# Altium schematic symbol library preamp.SCHLIB: 32 symbols
Pins are listed as number, name and electrical type; pins without a type are passive.

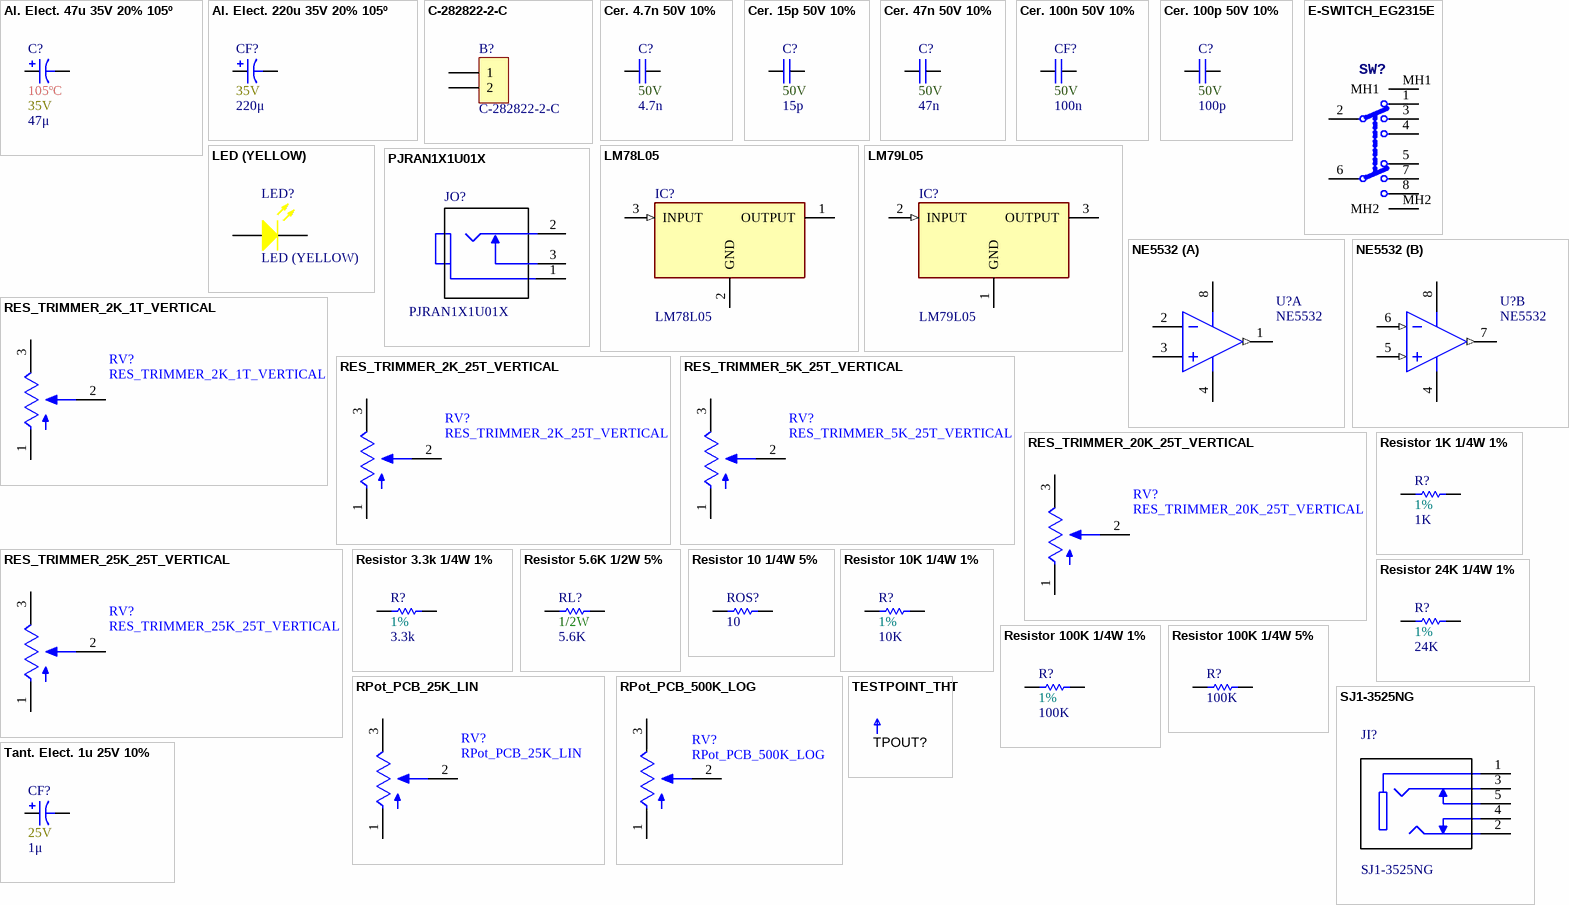
[diagram p0: symbols Al. Elect. 47u 35V 20% 105º to TESTPOINT_THT]

## Al. Elect. 47u 35V 20% 105º
designator C?  value 47μ  Temperature: 105ºC  Voltage: 35V  (hidden comment: Al. Elect. 47u 35V 20% 105º)
Aluminum Electrolytic Capacitor 47μF 35V 20% 105º; Application: Medium and high voltage type range from 160V-450V used as primary side input filter in power supply, which can be used in general switching power supply, PC power supply and industrial computer power supply,server power supply, AC-DC converter, motor drive circuit DC storage filter, digital audio, digital TV, communication base station, DC-AC inverter, inverter power supply and converters etc; Characteristics: Aluminum Electrolytic Capacitor; Tolerance: 20%; Price: *; Supplier: *; Power: *
footprint Al. Electrolytic 6.3mmx11.0mmx2.5mm (Polarized capacitors, Aluminum Electrolytic Capacitors, 2-Leads, Body 6.3mmx11.0mmx2.5mm)
footprint Al. Electrolytic 6.3mmx11.0mmx2.5mm-CLEAN (Polarized capacitors, Aluminum Electrolytic Capacitors, 2-Leads, Body 6.3mmx11.0mmx2.5mm)
pins: 1, 2

## Al. Elect. 220u 35V 20% 105º
designator CF?  value 220μ  Voltage: 35V  (hidden comment: Al. Elect. 220u 35V 20% 105º)
Aluminum Electrolytic Capacitor 220μF 35V 20% 105º; Application: Medium and high voltage type range from 160V-450V used as primary side input filter in power supply, which can be used in general switching power supply, PC power supply and industrial computer power supply,server power supply, AC-DC converter, motor drive circuit DC storage filter, digital audio, digital TV, communication base station, DC-AC inverter, inverter power supply and converters etc; Characteristics: Aluminum Electrolytic Capacitor; Tolerance: 20%; Price: *; Supplier: *; Power: *; Temperature: 105ºC
footprint Al. Electrolytic 8.0mmx13.0mmx3.5mm-CLEAN (Polarized capacitors, Aluminum Electrolytic Capacitors, 2-Leads, Body 8.0mmx13.0mmx3.5mm)
pins: 1, 2

## C-282822-2-C
designator B?
TERMI-BLOK HEADER,ASSY90 2P - serie 282822 - 5.00mm; Manufacturer: TE Connectivity; ComponentLink1 Description: Manufacturer; ComponentLink2 Description: Datasheet; NoPins: 02; Created Date: 6 MArch 2017; partNo: C-282822-2-C; ComponentLink1URL: http://www.te.com/usa-en/home.html; ComponentLink2URL: http://www.te.com/usa-en/product-282822-2.html
footprint TE-C-282822-2-C-PLUGGED (5.00mm - Open Vertical PCB Header - 02p)
footprint TE-C-282822-2-C (5.00mm - Open Vertical PCB Header - 02p)
pins: 1 (power), 2

## Cer. 4.7n 50V 10%
designator C?  value 4.7n  Voltage: 50V  (hidden comment: Cer. 4.7n 50V 10%)
Ceramic Capacitor 4.7nF 50V 10%; Application: Medium and high voltage type range from 160V-450V used as primary side input filter in power supply, which can be used in general switching power supply, PC power supply and industrial computer power supply,server power supply, AC-DC converter, motor drive circuit DC storage filter, digital audio, digital TV, communication base station, DC-AC inverter, inverter power supply and converters etc; Characteristics: Ceramic Capacitor; Tolerance: 10%; Power: *; Supplier: *; Price: *
footprint Cer. pitch 5.0mm height 6.0mm (Radial ceramic capacitor pitch 5.0mm height 6.0mm)
footprint Cer. pitch 2.5mm height 5.0mm (Radial ceramic capacitor pitch 2.5mm height 5.0mm)
footprint Cer. pitch 5.08mm height 6.00mm (Radial ceramic capacitor pitch 5.08mm height 6.0mm)
footprint Cer. pitch 2.5mm height 5.0mm (Radial ceramic capacitor pitch 2.5mm height 5.0mm)
footprint Cer. pitch 5.5mm height 6.0mm (Radial ceramic capacitor pitch 5.5mm height 5.0mm)
pins: 1, 2

## Cer. 15p 50V 10%
designator C?  value 15p  Voltage: 50V  (hidden comment: Cer. 15p 50V 10%)
Ceramic Capacitor 15pF 50V 10%; Application: Medium and high voltage type range from 160V-450V used as primary side input filter in power supply, which can be used in general switching power supply, PC power supply and industrial computer power supply,server power supply, AC-DC converter, motor drive circuit DC storage filter, digital audio, digital TV, communication base station, DC-AC inverter, inverter power supply and converters etc; Characteristics: Ceramic Capacitor; Tolerance: 10%; Price: *; Power: *; Supplier: *
footprint Cer. pitch 5.0mm height 5.0mm (Radial ceramic capacitor pitch 5.0mm height 5.0mm)
footprint Cer. pitch 2.5mm height 5.0mm (Radial ceramic capacitor pitch 2.5mm height 5.0mm)
footprint Cer. pitch 5.0mm height 5.5mm (Radial ceramic capacitor pitch 5.0mm height 5.5mm)
footprint Cer. pitch 5.08mm height 6.00mm (Radial ceramic capacitor pitch 5.08mm height 6.0mm)
pins: 1, 2

## Cer. 47n 50V 10%
designator C?  value 47n  Voltage: 50V  (hidden comment: Cer. 47n 50V 10%)
Ceramic Capacitor 47nF 50V 10%; Application: Medium and high voltage type range from 160V-450V used as primary side input filter in power supply, which can be used in general switching power supply, PC power supply and industrial computer power supply,server power supply, AC-DC converter, motor drive circuit DC storage filter, digital audio, digital TV, communication base station, DC-AC inverter, inverter power supply and converters etc; Characteristics: Ceramic Capacitor; Tolerance: 10%; Power: *; Supplier: *; Price: *
footprint Cer. pitch 5.0mm height 6.0mm (Radial ceramic capacitor pitch 5.0mm height 6.0mm)
footprint Cer. pitch 2.5mm height 5.0mm (Radial ceramic capacitor pitch 2.5mm height 5.0mm)
footprint Cer. pitch 5.08mm height 6.00mm (Radial ceramic capacitor pitch 5.08mm height 6.0mm)
footprint Cer. pitch 2.5mm height 5.0mm (Radial ceramic capacitor pitch 2.5mm height 5.0mm)
footprint Cer. pitch 5.5mm height 6.0mm (Radial ceramic capacitor pitch 5.5mm height 5.0mm)
pins: 1, 2

## Cer. 100n 50V 10%
designator CF?  value 100n  Voltage: 50V  (hidden comment: Cer. 100n 50V 10%)
Ceramic Capacitor 100nF 50V 10%; Application: Medium and high voltage type range from 160V-450V used as primary side input filter in power supply, which can be used in general switching power supply, PC power supply and industrial computer power supply,server power supply, AC-DC converter, motor drive circuit DC storage filter, digital audio, digital TV, communication base station, DC-AC inverter, inverter power supply and converters etc; Characteristics: Ceramic Capacitor; Tolerance: 10%; Supplier: *; Price: *; Power: *
footprint Cer. pitch 5.0mm height 5.5mm (Radial ceramic capacitor pitch 5.0mm height 5.5mm)
footprint Cer. pitch 2.5mm height 5.0mm (Radial ceramic capacitor pitch 2.5mm height 5.0mm)
footprint Cer. pitch 5.08mm height 6.00mm (Radial ceramic capacitor pitch 5.08mm height 6.0mm)
pins: 1, 2

## Cer. 100p 50V 10%
designator C?  value 100p  Voltage: 50V  (hidden comment: Cer. 100p 50V 10%)
Ceramic Capacitor 100pF 50V 10%; Application: Medium and high voltage type range from 160V-450V used as primary side input filter in power supply, which can be used in general switching power supply, PC power supply and industrial computer power supply,server power supply, AC-DC converter, motor drive circuit DC storage filter, digital audio, digital TV, communication base station, DC-AC inverter, inverter power supply and converters etc; Characteristics: Ceramic Capacitor; Tolerance: 10%; Price: *; Power: *; Supplier: *
footprint Cer. pitch 5.0mm height 5.0mm (Radial ceramic capacitor pitch 5.0mm height 5.0mm)
footprint Cer. pitch 2.5mm height 5.0mm (Radial ceramic capacitor pitch 2.5mm height 5.0mm)
footprint Cer. pitch 5.0mm height 5.5mm (Radial ceramic capacitor pitch 5.0mm height 5.5mm)
footprint Cer. pitch 5.08mm height 6.00mm (Radial ceramic capacitor pitch 5.08mm height 6.0mm)
pins: 1, 2

## E-SWITCH_EG2315E
designator SW?, comment SWITCH SLIDE DP3T 200MA 30V  (value not drawn)
EG Series DP3T On-On-On 0.2 A Right Angle Through Hole Slide Switch; MPN: EG2315; GateName_1: G$0; SymbolName_1: E-SWITCH_EG2315_0_0; DeviceSetName: E-SWITCH_EG2315; contact_resistance: 20mΩ; prefix: SW; mfg_package_ident_rev: 0; temperature_range_high: +70°C; temperature_range_low: -20°C; device_class_L1: Electromechanical; verification_version: 0.0.0.1; contact_current_rating: 0.2A; lead_free: yes; device_class_L2: Switches; device_class_L3: Slide Switches; centroid_not_specified: No; MF: E-Switch; DeviceName: E-SWITCH_EG2315_0_0; LibraryName: Upverter Library; package: PTH_SW_12MM6_6MM8; mouser_description: Slide Switches SIDE OP PC MNT DP3T; mouser_part_number: 612-EG2315; mfg_package_ident_date: 0; throw_configuration: DP3T; digikey_description: SWITCH SLIDE DP3T 200MA 30V; digikey_part_number: EG1913-ND; datasheet: https://www.e-switch.com/system/asset/product_line/data_sheet/119/EG.pdf; footprint_url: http://spec_sheets.e-switch.com/specs/P040240.pdf; height: 5.1mm; mfg_package_ident: EG2315; voltage_rating_DC: 30V; rohs: yes
footprint E-SWITCH_EG2315 (EG Series DP3T On-On-On 0.2 A Right Angle Through Hole Slide Switch)
pins: 1, 2 1_COM, 3, 4, 5, 6 2_COM, 7, 8, MH1, MH2

## LED (YELLOW)
designator LED?
Typical LED (YELLOW); Publisher: Altium Limited
footprint LED_5MM_YELLOW (LED 5mm YELLOW)
footprint LED_3MM_YELLOW (LED 3mm YELLOW)
footprint 0805_LED
footprint 1206_LED
footprint SQ_LED
pins: A, K

## LM78L05
designator IC?
5V fixed regulator - 100mA; Manufacturer_Part_Number: LM7805; Height: 4.7mm; Power: *; Price: *; Supplier: *
footprint TO-92-1 (TO, Flat Index; 3 In-Line, Axial Leads; Body Dia. 5mm; Leads 0.55 x 0.50 mm (max))
pins: 1 OUTPUT (power), 2 GND, 3 INPUT (in)

## LM79L05
designator IC?
-5V fixed regulator - 100mA; Manufacturer_Part_Number: LM7805; Height: 4.7mm; Power: *; Price: *; Supplier: *
footprint TO-92-1 (TO, Flat Index; 3 In-Line, Axial Leads; Body Dia. 5mm; Leads 0.55 x 0.50 mm (max))
footprint TO-92-2
pins: 1 GND, 2 INPUT (in), 3 OUTPUT (power)

## NE5532
designator U?
Dual Low-Noise Operational Amplifiers; Manufacturer: Texas Instruments; PowerWise: N; PackageReference: N08E; PackageDescription: MDIP, .365 x .250 x .130in, 8 Lead, .100in Pitch; PartNumber: NE5532; RoHS: N; PinCount: 8; CompType: Amplifiers; Code_JEDEC: MS-001-BA; ComponentLink1Description: Manufacturer URL; ComponentLink1URL: http://www.ti.com/; ComponentLink2Description: NE5532 Datasheet; ComponentLink2URL: http://www.ti.com/lit/gpn/ne5532; ComponentLink3Description: NE5532 Web Page; ComponentLink3URL: http://www.ti.com/product/NE5532?keyMatch=NE5532&tisearch=Search-EN-Everything; ComponentLink4Description: NE5532 Package Page; ComponentLink4URL: http://www.ti.com/product/NE5532/pinout-quality; Supplier: *; Price: *; Power: *
footprint DIP8 (DIP, 8-Pin, Row Spacing 7.62 mm, Pitch 2.54 mm)
footprint DIP8 - W SOCKET (DIP, 8-Pin, Row Spacing 7.62 mm, Pitch 2.54 mm)
pins on every part: 4 V- (power), 8 V+ (power)
part A pins: 1 OUTA (out), 2 INA-, 3 INA+
part B pins: 5 INB+ (in), 6 INB- (in), 7 OUTB (out)

## PJRAN1X1U01X
designator JO?
Conn Phono Jack F 3 POS Solder RA Thru-Hole 3 Terminal 1 Port; MF: Switchcraft; Package: None; Price: None; MP: PJRAN1X1U01X; Availability: Unavailable; SnapEDA_Link: https://www.snapeda.com/parts/PJRAN1X1U01X/Switchcraft%20Inc./view-part/?ref=snap; Value: *
footprint *SWITCHCRAFT_PJRAN1X1U01X
pins: 1, 2, 3

## RES_TRIMMER_2K_1T_VERTICAL
designator RV?
Trimmer Vertical 2K 500mW 1-turn; Tolerance: ±10%; Ratings: 1/2W; ±100ppm/°C; Material: Cermet; Supplier: *; Power: *; Price: *; value: 2k
footprint POT_3386W (3386 - 3/8 ” Square Trimpot® Trimming Potentiometer)
pins: 1 A, 2 B, 3 C

## RES_TRIMMER_2K_25T_VERTICAL
designator RV?
Trimmer Vertical 2K 500mW 25-turn; Tolerance: ±10%; Ratings: 1/2W; ±100ppm/°C; Material: Cermet; Supplier: *; Power: *; Price: *; value: 2k
footprint POT_3296W (3296 - 3/8 ” Square Trimpot® Trimming Potentiometer)
pins: 1 A, 2 B, 3 C

## RES_TRIMMER_5K_25T_VERTICAL
designator RV?
Trimmer Vertical 5K 500mW 25-turn; Tolerance: ±10%; Ratings: 1/2W; ±100ppm/°C; Material: Cermet; Supplier: *; Power: *; Price: *; value: 5k
footprint POT_3296W (3296 - 3/8 ” Square Trimpot® Trimming Potentiometer)
pins: 1 A, 2 B, 3 C

## RES_TRIMMER_20K_25T_VERTICAL
designator RV?
Trimmer Vertical 20K 500mW 25-turn; Tolerance: ±10%; Ratings: 1/2W; ±100ppm/°C; Material: Cermet; Supplier: *; Power: *; Price: *; value: 20k
footprint POT_3296W (3296 - 3/8 ” Square Trimpot® Trimming Potentiometer)
pins: 1 A, 2 B, 3 C

## RES_TRIMMER_25K_25T_VERTICAL
designator RV?
Trimmer Vertical 25K 500mW 25-turn; Tolerance: ±10%; Ratings: 1/2W; ±100ppm/°C; Material: Cermet; Supplier: *; Power: 25k; Price: *; value: *
footprint POT_3296W (3296 - 3/8 ” Square Trimpot® Trimming Potentiometer)
pins: 1 A, 2 B, 3 C

## Resistor 1K 1/4W 1%
designator R?  value 1K  Tolerance: 1%  (hidden comment: Resistor 1K 1/4W 1%)
Resistor 1KΩ 1/4W 1%; Power: 1/4W; Type: (TH) Metal film; Supplier: *; Price: *
footprint AXIAL-0.4-GEN-0_25W (Axial Device, Thru-Hole; 2 Leads; 0.4 in Pin Spacing)
footprint AXIAL-0.3-GEN-0_25W (Axial Device, Thru-Hole; 2 Leads; 0.3 in Pin Spacing)
footprint AXIAL-0.5-GEN-0_25W (Axial Device, Thru-Hole; 2 Leads; 0.5 in Pin Spacing)
footprint AXIAL-0.6-GEN-0_25W (Axial Device, Thru-Hole; 2 Leads; 0.6 in Pin Spacing)
footprint AXIAL-0.4-E24-0_25W-1k-1% (Axial Device, Thru-Hole; 2 Leads; 0.4 in Pin Spacing)
pins: 1, 2

## Resistor 3.3k 1/4W 1%
designator R?  value 3.3k  Tolerance: 1%  (hidden comment: Resistor 3.3k 1/4W 1%)
Resistor 3.3kΩ 1/4W 1%; Power: 1/4W; Price: *; Supplier: *; Type: (TH) Metal film
footprint AXIAL-0.4-GEN-0_25W (Axial Device, Thru-Hole; 2 Leads; 0.4 in Pin Spacing)
footprint AXIAL-0.3-GEN-0_25W (Axial Device, Thru-Hole; 2 Leads; 0.3 in Pin Spacing)
footprint AXIAL-0.5-GEN-0_25W (Axial Device, Thru-Hole; 2 Leads; 0.5 in Pin Spacing)
footprint AXIAL-0.6-GEN-0_25W (Axial Device, Thru-Hole; 2 Leads; 0.6 in Pin Spacing)
footprint AXIAL-0.4-E24-0_25W-3.3k-1% (Axial Device, Thru-Hole; 2 Leads; 0.4 in Pin Spacing)
pins: 1, 2

## Resistor 5.6K 1/2W 5%
designator RL?  value 5.6K  Power: 1/2W  (hidden comment: Resistor 5.6K 1/2W 5%)
Resistor 5.6KΩ 1/2W 5%; Tolerance: 5%; Price: *; Type: (TH) Metal film; Supplier: *
footprint AXIAL-0.4-GEN-0_25W (Axial Device, Thru-Hole; 2 Leads; 0.4 in Pin Spacing)
footprint AXIAL-0.3-GEN-0_25W (Axial Device, Thru-Hole; 2 Leads; 0.3 in Pin Spacing)
footprint AXIAL-0.5-GEN-0_25W (Axial Device, Thru-Hole; 2 Leads; 0.5 in Pin Spacing)
footprint AXIAL-0.6-GEN-0_25W (Axial Device, Thru-Hole; 2 Leads; 0.6 in Pin Spacing)
footprint AXIAL-0.5-E24-0_5W-5.6K (Axial Device, Thru-Hole; 2 Leads; 0.5 in Pin Spacing)
pins: 1, 2

## Resistor 10 1/4W 5%
designator ROS?  value 10  (hidden comment: Resistor 10 1/4W 5%)
Resistor 10Ω 1/4W 5%; Power: 1/4W; Tolerance: 5%; Price: *; Supplier: *; Type: (TH) Metal film
footprint AXIAL-0.4-E24-0_25W-10 (Axial Device, Thru-Hole; 2 Leads; 0.4 in Pin Spacing)
footprint AXIAL-0.4-GEN-0_25W (Axial Device, Thru-Hole; 2 Leads; 0.4 in Pin Spacing)
footprint AXIAL-0.3-GEN-0_25W (Axial Device, Thru-Hole; 2 Leads; 0.3 in Pin Spacing)
footprint AXIAL-0.5-GEN-0_25W (Axial Device, Thru-Hole; 2 Leads; 0.5 in Pin Spacing)
footprint AXIAL-0.6-GEN-0_25W (Axial Device, Thru-Hole; 2 Leads; 0.6 in Pin Spacing)
pins: 1, 2

## Resistor 10K 1/4W 1%
designator R?  value 10K  Tolerance: 1%  (hidden comment: Resistor 10K 1/4W 1%)
Resistor 10KΩ 1/4W 1%; Power: 1/4W; Price: *; Supplier: *; Type: (TH) Metal film
footprint AXIAL-0.4-GEN-0_25W (Axial Device, Thru-Hole; 2 Leads; 0.4 in Pin Spacing)
footprint AXIAL-0.3-GEN-0_25W (Axial Device, Thru-Hole; 2 Leads; 0.3 in Pin Spacing)
footprint AXIAL-0.5-GEN-0_25W (Axial Device, Thru-Hole; 2 Leads; 0.5 in Pin Spacing)
footprint AXIAL-0.6-GEN-0_25W (Axial Device, Thru-Hole; 2 Leads; 0.6 in Pin Spacing)
footprint AXIAL-0.4-E24-0_25W-10k-1% (Axial Device, Thru-Hole; 2 Leads; 0.4 in Pin Spacing)
pins: 1, 2

## Resistor 24K 1/4W 1%
designator R?  value 24K  Tolerance: 1%  (hidden comment: Resistor 24K 1/4W 1%)
Resistor 24KΩ 1/4W 1%; Price: *; Supplier: *; Type: (TH) Metal film; Power: 1/4W
footprint AXIAL-0.4-GEN-0_25W (Axial Device, Thru-Hole; 2 Leads; 0.4 in Pin Spacing)
footprint AXIAL-0.3-GEN-0_25W (Axial Device, Thru-Hole; 2 Leads; 0.3 in Pin Spacing)
footprint AXIAL-0.5-GEN-0_25W (Axial Device, Thru-Hole; 2 Leads; 0.5 in Pin Spacing)
footprint AXIAL-0.6-GEN-0_25W (Axial Device, Thru-Hole; 2 Leads; 0.6 in Pin Spacing)
footprint AXIAL-0.4-E24-0_25W-24k-1% (Axial Device, Thru-Hole; 2 Leads; 0.4 in Pin Spacing)
pins: 1, 2

## Resistor 100K 1/4W 1%
designator R?  value 100K  Tolerance: 1%  (hidden comment: Resistor 100K 1/4W 1%)
Resistor 100KΩ 1/4W 1%; Power: 1/4W; Price: *; Type: (TH) Metal film; Supplier: *
footprint AXIAL-0.4-GEN-0_25W (Axial Device, Thru-Hole; 2 Leads; 0.4 in Pin Spacing)
footprint AXIAL-0.3-GEN-0_25W (Axial Device, Thru-Hole; 2 Leads; 0.3 in Pin Spacing)
footprint AXIAL-0.5-GEN-0_25W (Axial Device, Thru-Hole; 2 Leads; 0.5 in Pin Spacing)
footprint AXIAL-0.6-GEN-0_25W (Axial Device, Thru-Hole; 2 Leads; 0.6 in Pin Spacing)
footprint AXIAL-0.4-E24-0_25W-100k-1% (Axial Device, Thru-Hole; 2 Leads; 0.4 in Pin Spacing)
pins: 1, 2

## Resistor 100K 1/4W 5%
designator R?  value 100K  (hidden comment: Resistor 100K 1/4W 5%)
Resistor 100KΩ 1/4W 5%; Power: 1/4W; Tolerance: 5%; Price: *; Type: (TH) Metal film; Supplier: *
footprint AXIAL-0.4-E24-0_25W-100k (Axial Device, Thru-Hole; 2 Leads; 0.4 in Pin Spacing)
footprint AXIAL-0.4-GEN-0_25W (Axial Device, Thru-Hole; 2 Leads; 0.4 in Pin Spacing)
footprint AXIAL-0.3-GEN-0_25W (Axial Device, Thru-Hole; 2 Leads; 0.3 in Pin Spacing)
footprint AXIAL-0.5-GEN-0_25W (Axial Device, Thru-Hole; 2 Leads; 0.5 in Pin Spacing)
footprint AXIAL-0.6-GEN-0_25W (Axial Device, Thru-Hole; 2 Leads; 0.6 in Pin Spacing)
pins: 1, 2

## RPot_PCB_25K_LIN
designator RV?
25K PCB LIN Potentiometer; Supplier: *; Price: *; Power: *; Value: 25k
footprint POTE16mm
pins: 1 A, 2 B, 3 C
1 alternate drawing of the same symbol

## RPot_PCB_500K_LOG
designator RV?
500K PCB LOG Potentiometer; Supplier: *; Price: *; Power: *; Value: 500k
footprint POTE16mm
pins: 1 A, 2 B, 3 C
1 alternate drawing of the same symbol

## SJ1-3525NG
designator JI?
Value: *; Supplier: *; Power: *; Price: *
footprint *CUI_SJ1-3525NG
pins: 1, 2, 3, 4, 5

## Tant. Elect. 1u 25V 10%
designator CF?  value 1μ  Voltage: 25V  (hidden comment: Tant. Elect. 1u 25V 10%)
Tantalum Electrolytic Capacitor 1μF 25V 10%; Application: Medium and high voltage type range from 160V-450V used as primary side input filter in power supply, which can be used in general switching power supply, PC power supply and industrial computer power supply,server power supply, AC-DC converter, motor drive circuit DC storage filter, digital audio, digital TV, communication base station, DC-AC inverter, inverter power supply and converters etc; Characteristics: Tantalum Electrolytic Capacitor; Tolerance: 10%; Temperature: *; Price: *; Supplier: *; Power: *
footprint Tantalum Electrolytic 4.5mmx8.0mmx0.254mm-CLEAN (Polarized capacitors, Tantalum Electrolytic Capacitors, 2-Leads, Body 4.5mmx8.0mmx0.254mm)
pins: 1, 2

## TESTPOINT_THT
designator TPOUT?  (value not drawn)
Test Point PCB mount Multi-purpose Black; Manufacturer 1: Keystone Electronics; Manufacturer Part Number 1: 5014; PBL Part Number: 3100-xxx; Description 1: TEST POINT PC MULTI PURPOSE YEL; Supplier 1: Digi-Key; Supplier Part Number 1: 5014K-ND; Mounting Type: 0.063" (1.600mm) Hole Diameter; Material: Base, Nylon 46, UL 94V-0
footprint TP-THT-MULTI (Thru-hole test point loop)
pins: 1